# Altium footprint library PcbLib2.PcbLib: 7 footprints
Each footprint in its own frame and in the unit in brackets; x right, y up, seen from the top. Pads: shape width x height; smd on the part's side, far side on the other; paste and mask are expansions set on the pad; w line width, h text height; cw(c..) or ccw(c..) is an arc to the next point about the centre after c.
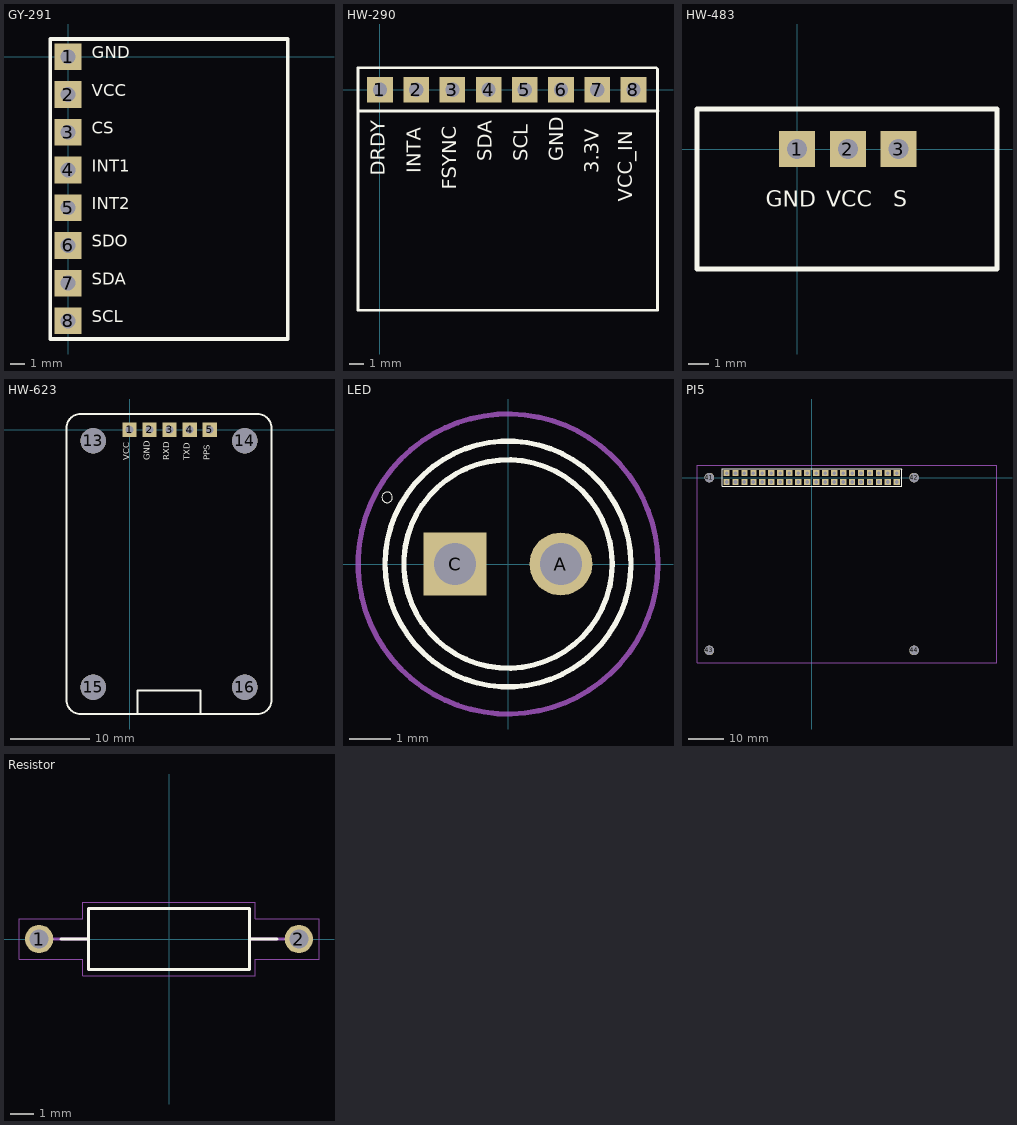
[diagram p0: the footprints below, top view; thin cyan lines are the x and y axes]

## GY-291 [mm]
pads (8):
  rect 1.8x1.8 hole 1: 1(0,0) 2(0,-2.54) 3(0,-5.08) 4(0,-7.62) 5(0,-10.16) 6(0,-12.7) 7(0,-15.24) 8(0,-17.78)
Top Overlay:
  lines w0.254: -1.2,-19 14.8,-19 14.8,1.2 -1.2,1.2 -1.2,-19
  text "SCL" at 1.595,-17.884 h0.8
  text "SDA" at 1.595,-15.344 h0.8
  text "SDO" at 1.595,-12.804 h0.8
  text "INT2" at 1.595,-10.264 h0.8
  text "INT1" at 1.595,-7.724 h0.8
  text "CS" at 1.595,-5.184 h0.8
  text "VCC" at 1.595,-2.644 h0.8
  text "GND" at 1.595,-0.104 h0.8

## HW-290 [mm] "HW-290 module, 8 pin, 2.54mm"
pads (8):
  rect 1.8x1.8 hole 1: 1(0,0) 2(2.54,0) 3(5.08,0) 4(7.62,0) 5(10.16,0) 6(12.7,0) 7(15.24,0) 8(17.78,0)
Top Overlay:
  lines w0.2: -1.5,-1.5 19.5,-1.5 ; 19.38,1.54 -1.54,1.54 -1.54,-15.46 19.46,-15.46 19.46,1.46
  text "DRDY" at 0.35,-6.017 h1
  text "INTA" at 2.85,-5.851 h1
  text "FSYNC" at 5.35,-7.017 h1
  text "SDA" at 7.85,-5.018 h1
  text "SCL" at 10.35,-5.018 h1
  text "GND" at 12.85,-5.018 h1
  text "3.3V" at 15.35,-5.851 h1
  text "VCC_IN" at 17.683,-7.85 h1

## HW-483 [mm] "3 pin button. Left pin - GND, central pin - VCC, right pin - SIGNAL"
pads (3):
  rect 1.8x1.8 hole 1: 1(0,0) 2(2.54,0) 3(5.08,0)
Top Overlay:
  lines w0.254: -5,-6 10,-6 10,2 -5,2 -5,-6
  text "GND" at -1.574,-2.898 h0.8
  text "S" at 4.813,-2.898 h0.8
  text "VCC" at 1.474,-2.898 h0.8

## HW-623 [mm] "GPS module"
pads (9):
  rect 1.8x1.8 hole 1: 1(0,0) 2(2.54,0) 3(5.08,0) 4(7.62,0) 5(10.16,0)
  round 3.2 hole 3.2 unplated: 13(-4.6,-1.4) 14(14.6,-1.4) 15(-4.6,-32.6) 16(14.6,-32.6)
Top Overlay:
  lines w0.254: -8,-34.2 ccw(c-6.2,-34.2) -6.2,-36 16.2,-36 ccw(c16.2,-34.2) 18,-34.2 18,0.2 ccw(c16.2,0.2) 16.2,2 -6.2,2 ccw(c-6.2,0.2) -8,0.2 -8,-34.2 ; 1,-36 9,-36 9,-33 1,-33 1,-36
  text "VCC" at -0.05,-3.866 h0.8
  text "GND" at 2.55,-3.866 h0.8
  text "RXD" at 5.05,-3.866 h0.8
  text "TXD" at 7.65,-3.866 h0.8
  text "PPS" at 10.15,-3.866 h0.8

## LED [mm]
pads (2):
  round 1.508 hole 1: A(1.27,0)
  rect 1.508x1.508 / inner round 1.508 / far side rect 1.508x1.508 hole 1: C(-1.27,0)
Top Overlay:
  circle w0.127: c0,0 r2.95
  circle w0.127: c0,0 r2.5
  circle w0: c-2.9,1.6 r0.127
Mechanical 15:
  circle w0.127: c0,0 r3.6
3D body "step_temp.STEP": height 9.6, standoff -26, extent -2.5,-2.95 2.95,2.95

## PI5 [mm]
pads (44):
  rect 1.8x1.8 hole 1: 1(-24.13,-1.27) 2(-24.13,1.27) 3(-21.59,-1.27) 4(-21.59,1.27) 5(-19.05,-1.27) 6(-19.05,1.27) 7(-16.51,-1.27) 8(-16.51,1.27) 9(-13.97,-1.27) 10(-13.97,1.27) 11(-11.43,-1.27) 12(-11.43,1.27) 13(-8.89,-1.27) 14(-8.89,1.27) 15(-6.35,-1.27) 16(-6.35,1.27) 17(-3.81,-1.27) 18(-3.81,1.27) 19(-1.27,-1.27) 20(-1.27,1.27) 21(1.27,-1.27) 22(1.27,1.27) 23(3.81,-1.27) 24(3.81,1.27) 25(6.35,-1.27) 26(6.35,1.27) 27(8.89,-1.27) 28(8.89,1.27) 29(11.43,-1.27) 30(11.43,1.27) 31(13.97,-1.27) 32(13.97,1.27) 33(16.51,-1.27) 34(16.51,1.27) 35(19.05,-1.27) 36(19.05,1.27) 37(21.59,-1.27) 38(21.59,1.27) 39(24.13,-1.27) 40(24.13,1.27)
  round 2.7 hole 2.7 unplated: 41(-29,0) 42(29,0) 43(-29,-49) 44(29,-49)
Top Overlay:
  lines w0.254: -25.4,-2.54 -25.4,1.4 -25.4,2.5 25.4,2.5 25.5,2.4 25.5,-2.5 25.46,-2.54 -25.4,-2.54
Mechanical 1:
  lines w0.254: -32.5,-52.5 52.5,-52.5 52.5,3.5 -32.5,3.5 -32.5,-52.5
3D body: height -1.6, standoff -10.1, extent -25.4,-2.54 25.4,2.54

## Resistor [mm]
pads (2):
  round 1.2 hole 0.8: 1(-5.5,0) 2(5.5,0)
Top Overlay:
  lines w0.127: -4.58,0 -3.4,0 ; 4.58,0 3.4,0 ; -3.4,0 -3.4,-1.3 3.4,-1.3 3.4,0 ; -3.4,0 -3.4,1.3 3.4,1.3 3.4,0
Mechanical 13:
  lines w0.127: -4.9,0 -3.4,0 ; 4.9,0 3.4,0 ; -3.4,0 -3.4,-1.3 3.4,-1.3 3.4,0 ; -3.4,0 -3.4,1.3 3.4,1.3 3.4,0
Mechanical 15:
  lines w0.05: -6.35,-0.85 -6.35,0.85 -3.65,0.85 -3.65,1.55 3.65,1.55 3.65,0.85 6.35,0.85 6.35,-0.85 3.65,-0.85 3.65,-1.55 -3.65,-1.55 -3.65,-0.85 -6.35,-0.85
3D body "step_temp.STEP": height 2.4, standoff -26.95, extent -5.775,-1.2 5.775,1.2